# EAGLE library part AD8561ARUZ (library ICs)
The AD8561 is a single 7 ns comparator with separate input and output sections. Separate supplies enable the input stage to be operated from ±5 V dual supplies and +5 V single supplies. Fast 7 ns propagation delay makes the AD8561 a good choice for timing circuits and line receivers. Propagation delays for rising and falling signals are closely matched and track over temperature. This matched delay makes the AD8561 a good choice for clock recovery, since the duty cycle of the output will match the duty cycle of the input.The AD8561 has the same pinout as the LT1016, with lowersupply current and a wider common-mode input range, whichincludes the negative supply rail. The AD8561 is specified over the industrial (–40 °C to +85°C)temperature range. The AD8561 is available in both the 8-leadplastic DIP, 8-lead TSSOP or narrow SO-8 surface mount packages.
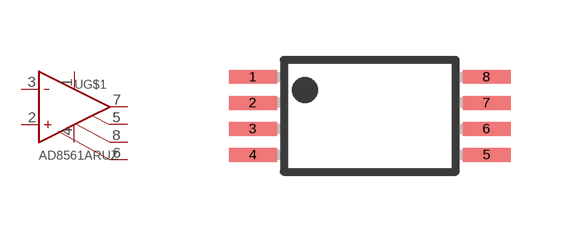
[diagram p4: symbol with the pads of TSSOP8; footprint TSSOP8]

Designator prefix -; gates G$2=PWR+- G$1=STDCOMPERATOR

## AD8561ARUZ  [TSSOP8]
1  G$2:V+  pwr
2  G$1:+IN  in
3  G$1:-IN  in
4  G$2:V-  pwr
5  G$1:LATCH
6  G$1:GND  pwr
7  G$1:OUT  out
8  G$1:/OUT  out

## Footprint TSSOP8 (pad centres in mm)
Plastic Small Outline
smd 1.2 x 0.35: 1 -2.925,0.975; 2 -2.925,0.325; 3 -2.925,-0.325; 4 -2.925,-0.975; 5 2.925,-0.975; 6 2.925,-0.325; 7 2.925,0.325; 8 2.925,0.975